# Altium footprint library con-amp-mt.PCBLIB: 51 footprints (part 1 of 4)
Each footprint in its own frame and in the unit in brackets; x right, y up, seen from the top. Pads: shape width x height; smd on the part's side, far side on the other; paste and mask are expansions set on the pad; w line width, h text height; cw(c..) or ccw(c..) is an arc to the next point about the centre after c.
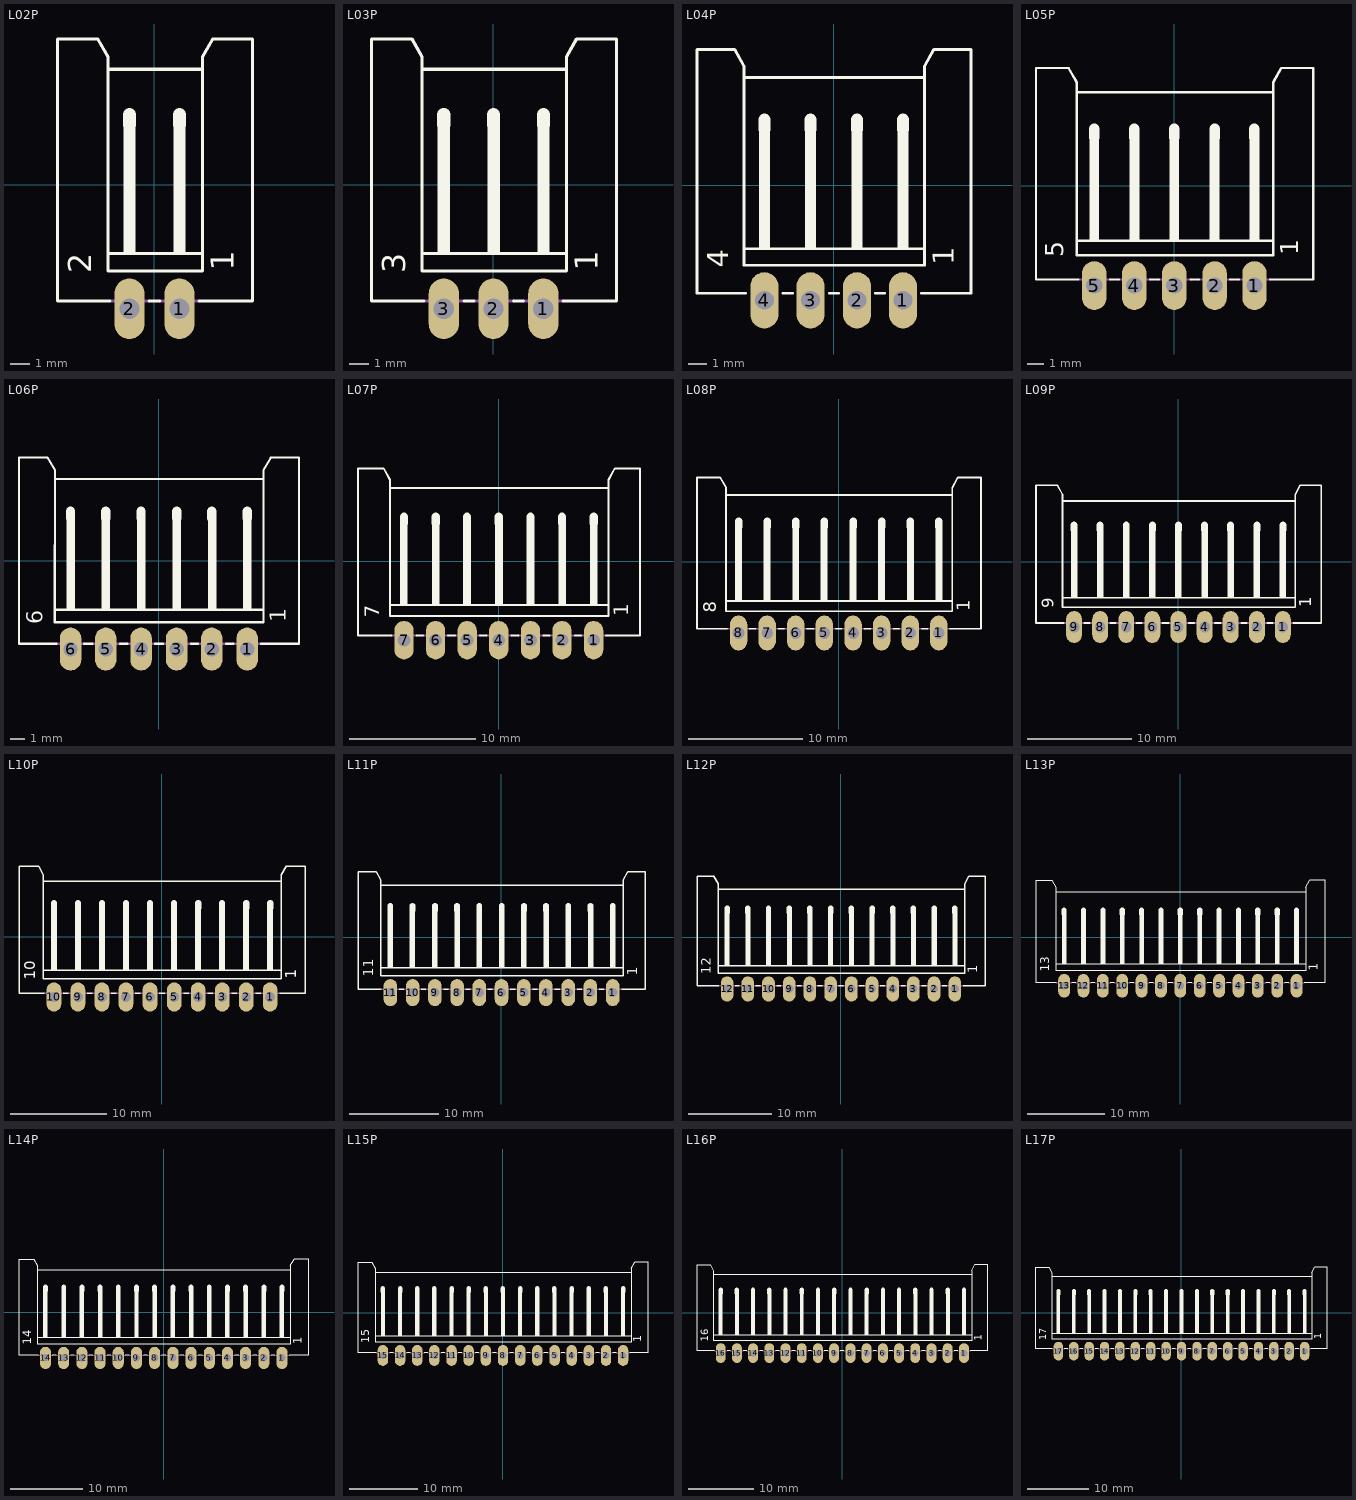
[diagram p0: the footprints below, top view; thin cyan lines are the x and y axes]

## L02P [mil]
pads (2):
  oval 60x120 hole 40: 1(50,-246.06) 2(-49.21,-246.06)
Top Overlay:
  rectangle: -60.79,-136.06 -36.79,124
  rectangle: 38,-136.06 62,124
  lines w6: -87.8,-231.06 -191.77,-231.06 -191.77,289 -111.77,289 -91.77,254 -91.77,229 ; -9.8,-231.06 11,-231.06 ; 89,-231.06 195,-231.06 195,289 116,289 96,254 96,229 ; -91.77,-136.06 -91.77,229 ; -91.77,-136.06 -91.77,-171.06 96,-171.06 96,-136.06 ; -91.77,-136.06 96,-136.06 ; -91.77,229 96,229 ; 96,-136.06 96,229
  lines w26: -49.21,119 -49.21,139 ; 50,119 50,139
  text "2" at -109.79,-176.06 h77.5
  text "1" at 173,-171.06 h77.5
Mechanical 16:
  rectangle: -60.79,-256.06 -36.79,-231.06
  rectangle: 38,-256.06 62,-231.06
  lines w6: -87.8,-231.06 -9.8,-231.06 ; 11,-231.06 89,-231.06

## L03P [mil]
pads (3):
  oval 60x120 hole 40: 1(99,-246.06) 2(0,-246.06) 3(-98.43,-246.06)
Top Overlay:
  rectangle: 87,-136.06 111,124
  rectangle: -11.57,-136.06 13,124
  rectangle: -110.57,-136.06 -86.57,124
  lines w6: -137.56,-231.06 -241.57,-231.06 -241.57,289 -161.57,289 -141.57,254 -141.57,229 ; -58.58,-231.06 -38.58,-231.06 ; 40,-231.06 60,-231.06 ; 138,-231.06 244,-231.06 244,289 165,289 145,254 145,229 ; -141.57,-136.06 145,-136.06 ; -141.57,-136.06 -141.57,-171.06 145,-171.06 145,-136.06 ; -141.57,-136.06 -141.57,229 ; -141.57,229 145,229 ; 145,-136.06 145,229
  lines w26: -98.58,119 -98.58,139 ; 0,119 0,139 ; 99,119 99,139
  text "1" at 222,-171.06 h77.5
  text "3" at -159.57,-176.06 h77.5
Mechanical 16:
  rectangle: 87,-256.06 111,-231.06
  rectangle: -11.57,-256.06 13,-231.06
  rectangle: -110.57,-256.06 -86.57,-231.06
  lines w6: -136.57,-231.06 -58.58,-231.06 ; -38.58,-231.06 40,-231.06 ; 60,-231.06 138,-231.06

## L04P [mil]
pads (4):
  oval 60x120 hole 40: 1(148,-246.06) 2(50,-246.06) 3(-49.21,-246.06) 4(-147.64,-246.06)
Top Overlay:
  rectangle: -159.36,-136.06 -135.36,124
  rectangle: -61.36,-136.06 -37.36,124
  rectangle: 38,-136.06 62,124
  rectangle: 136,-136.06 160,124
  lines w6: -187.36,-231.06 -291.38,-231.06 -291.38,289 -211.38,289 -191.38,254 -191.38,229 ; -108.35,-231.06 -87.36,-231.06 ; -9.37,-231.06 11,-231.06 ; 89,-231.06 109,-231.06 ; 187,-231.06 293,-231.06 293,289 214,289 194,254 194,229 ; -191.38,-136.06 -191.38,229 ; -191.38,-136.06 -191.38,-171.06 194,-171.06 194,-136.06 ; -191.38,-136.06 194,-136.06 ; -191.38,229 194,229 ; 194,-136.06 194,229
  lines w26: -147.64,119 -147.64,139 ; -49.37,119 -49.37,139 ; 50,119 50,139 ; 148,119 148,139
  text "4" at -209.36,-176.06 h77.5
  text "1" at 271,-171.06 h77.5
Mechanical 16:
  rectangle: -159.36,-256.06 -135.36,-231.06
  rectangle: -61.36,-256.06 -37.36,-231.06
  rectangle: 38,-256.06 62,-231.06
  rectangle: 136,-256.06 160,-231.06

## L05P [mil]
pads (5):
  oval 60x120 hole 40: 1(197,-246.06) 2(99,-246.06) 3(0,-246.06) 4(-98.43,-246.06) 5(-196.85,-246.06)
Top Overlay:
  rectangle: 185,-136.06 209,124
  rectangle: 87,-136.06 111,124
  rectangle: -12.15,-136.06 12,124
  rectangle: -110.15,-136.06 -86.15,124
  rectangle: -209.15,-136.06 -185.15,124
  lines w6: -236.14,-231.06 -340.16,-231.06 -340.16,289 -260.16,289 -240.16,254 -240.16,229 ; -157.17,-231.06 -137.17,-231.06 ; -59.13,-231.06 -38.15,-231.06 ; 40,-231.06 60,-231.06 ; 138,-231.06 158,-231.06 ; 236,-231.06 342,-231.06 342,289 263,289 243,254 243,229 ; -240.16,-136.06 243,-136.06 ; -240.16,-136.06 -240.16,-171.06 243,-171.06 243,-136.06 ; -240.16,-136.06 -240.16,229 ; -240.16,229 243,229 ; 243,-136.06 243,229
  lines w26: -197.17,119 -197.17,139 ; -98.43,119 -98.43,139 ; -0.16,119 -0.16,139 ; 99,119 99,139 ; 197,119 197,139
  text "1" at 320,-171.06 h77.5
  text "5" at -258.15,-176.06 h77.5
Mechanical 16:
  rectangle: 185,-256.06 209,-231.06
  rectangle: 87,-256.06 111,-231.06
  rectangle: -12.15,-256.06 12,-231.06
  rectangle: -110.15,-256.06 -86.15,-231.06
  rectangle: -209.15,-256.06 -185.15,-231.06
  lines w6: -234.13,-231.06 -157.17,-231.06 ; -137.17,-231.06 -59.13,-231.06 ; -38.15,-231.06 40,-231.06 ; 60,-231.06 138,-231.06 ; 158,-231.06 236,-231.06

## L06P [mil]
pads (6):
  oval 60x120 hole 40: 1(247,-246.06) 2(148,-246.06) 3(50,-246.06) 4(-49.21,-246.06) 5(-147.64,-246.06) 6(-246.06,-246.06)
Top Overlay:
  rectangle: 235,-136.06 259,124
  rectangle: 137,-136.06 161,124
  rectangle: 38,-136.06 62,124
  rectangle: -60.94,-136.06 -36.94,124
  rectangle: -159.94,-136.06 -135.94,124
  rectangle: -257.94,-136.06 -233.94,124
  lines w6: -285.94,-231.06 -389.94,-231.06 -389.94,289 -309.94,289 -289.92,254 -289.92,229 ; -207.95,-231.06 -184.92,-231.06 ; -107.95,-231.06 -87.95,-231.06 ; -9.92,-231.06 12,-231.06 ; 90,-231.06 110,-231.06 ; 188,-231.06 208,-231.06 ; 286,-231.06 392,-231.06 392,289 313,289 293,254 293,229 ; -289.94,-136.06 293,-136.06 ; -289.94,-136.06 -289.94,-171.06 293,-171.06 293,-136.06 ; -289.94,-136.06 -289.92,229 ; -289.92,229 293,229 ; 293,-136.06 293,229
  lines w26: -245.94,119 -245.94,139 ; -147.95,119 -147.94,139 ; -49.21,119 -49.21,139 ; 50,119 50,139 ; 148,119 148,139 ; 247,119 247,139
  text "1" at 370,-171.06 h77.5
  text "6" at -307.94,-176.06 h77.5
Mechanical 16:
  rectangle: 235,-256.06 259,-231.06
  rectangle: 137,-256.06 161,-231.06
  rectangle: 38,-256.06 62,-231.06
  rectangle: -60.94,-256.06 -36.94,-231.06
  rectangle: -159.94,-256.06 -135.94,-231.06
  rectangle: -257.94,-256.06 -233.94,-231.06
  lines w6: -285.94,-231.06 -207.95,-231.06 ; -184.92,-231.06 -107.95,-231.06 ; -87.95,-231.06 -9.92,-231.06 ; 12,-231.06 90,-231.06 ; 110,-231.06 188,-231.06 ; 208,-231.06 286,-231.06

## L07P [mil]
pads (7):
  oval 60x120 hole 40: 1(296,-246.06) 2(197,-246.06) 3(99,-246.06) 4(0,-246.06) 5(-98.43,-246.06) 6(-196.85,-246.06) 7(-295.28,-246.06)
Top Overlay:
  rectangle: 284,-136.06 308,124
  rectangle: 186,-136.06 210,124
  rectangle: 87,-136.06 111,124
  rectangle: -11.72,-136.06 13,124
  rectangle: -110.72,-136.06 -86.72,124
  rectangle: -208.72,-136.06 -184.72,124
  rectangle: -307.72,-136.06 -283.72,124
  lines w6: -334.72,-231.06 -438.74,-231.06 -438.74,289 -358.74,289 -338.74,254 -338.74,229 ; -256.73,-231.06 -236.73,-231.06 ; -158.74,-231.06 -135.71,-231.06 ; -58.74,-231.06 -38.74,-231.06 ; 40,-231.06 61,-231.06 ; 139,-231.06 159,-231.06 ; 237,-231.06 257,-231.06 ; 335,-231.06 441,-231.06 441,289 362,289 342,254 342,229 ; -338.74,-136.06 342,-136.06 ; -338.74,-136.06 -338.74,-171.06 342,-171.06 342,-136.06 ; -338.74,-136.06 -338.74,229 ; -338.74,229 342,229 ; 342,-136.06 342,229
  lines w26: -295.28,119 -295.28,139 ; -196.73,119 -196.73,139 ; -98.74,119 -98.74,139 ; 0,119 0,139 ; 99,119 99,139 ; 197,119 197,139 ; 296,119 296,139
  text "1" at 419,-171.06 h77.5
  text "7" at -356.72,-176.06 h77.5
Mechanical 16:
  rectangle: 284,-256.06 308,-231.06
  rectangle: 186,-256.06 210,-231.06
  rectangle: 87,-256.06 111,-231.06
  rectangle: -11.72,-256.06 13,-231.06
  rectangle: -110.72,-256.06 -86.72,-231.06
  rectangle: -208.72,-256.06 -184.72,-231.06
  rectangle: -307.72,-256.06 -283.72,-231.06
  lines w6: -334.72,-231.06 -256.73,-231.06 ; -236.73,-231.06 -158.74,-231.06 ; -135.71,-231.06 -58.74,-231.06 ; -38.74,-231.06 40,-231.06 ; 61,-231.06 139,-231.06 ; 159,-231.06 237,-231.06 ; 257,-231.06 335,-231.06

## L08P [mil]
pads (8):
  oval 60x120 hole 40: 1(345,-246.06) 2(247,-246.06) 3(148,-246.06) 4(50,-246.06) 5(-49.21,-246.06) 6(-147.64,-246.06) 7(-246.06,-246.06) 8(-344.49,-246.06)
Top Overlay:
  rectangle: 333,-136.06 357,124
  rectangle: 235,-136.06 259,124
  rectangle: 136,-136.06 160,124
  rectangle: 38,-136.06 62,124
  rectangle: -61.51,-136.06 -37.51,124
  rectangle: -159.51,-136.06 -135.51,124
  rectangle: -258.51,-136.06 -234.51,124
  rectangle: -356.51,-136.06 -332.51,124
  lines w6: -383.5,-231.06 -487.52,-231.06 -487.52,289 -407.52,289 -387.52,254 -387.52,229 ; -306.5,-231.06 -285.51,-231.06 ; -207.52,-231.06 -187.52,-231.06 ; -109.53,-231.06 -86.5,-231.06 ; -9.53,-231.06 11,-231.06 ; 89,-231.06 110,-231.06 ; 188,-231.06 208,-231.06 ; 286,-231.06 306,-231.06 ; 384,-231.06 490,-231.06 490,289 411,289 391,254 391,229 ; -387.52,-136.06 391,-136.06 ; -387.52,-136.06 -387.52,-171.06 391,-171.06 391,-136.06 ; -387.52,-136.06 -387.52,229 ; -387.52,229 391,229 ; 391,-136.06 391,229
  lines w26: -344.53,119 -344.53,139 ; -246.06,119 -246.06,139 ; -147.52,119 -147.52,139 ; -49.53,119 -49.53,139 ; 50,119 50,139 ; 148,119 148,139 ; 247,119 247,139 ; 345,119 345,139
  text "1" at 468,-171.06 h77.5
  text "8" at -405.51,-176.06 h77.5
Mechanical 16:
  rectangle: 333,-256.06 357,-231.06
  rectangle: 235,-256.06 259,-231.06
  rectangle: 136,-256.06 160,-231.06
  rectangle: 38,-256.06 62,-231.06
  rectangle: -61.51,-256.06 -37.51,-231.06
  rectangle: -159.51,-256.06 -135.51,-231.06
  rectangle: -258.51,-256.06 -234.51,-231.06
  rectangle: -356.51,-256.06 -332.51,-231.06
  lines w6: -384.53,-231.06 -306.5,-231.06 ; -285.51,-231.06 -207.52,-231.06 ; -187.52,-231.06 -109.53,-231.06 ; -86.5,-231.06 -9.53,-231.06 ; 11,-231.06 89,-231.06 ; 110,-231.06 188,-231.06 ; 208,-231.06 286,-231.06 ; 306,-231.06 384,-231.06

## L09P [mil]
pads (9):
  oval 60x120 hole 40: 1(394,-246.06) 2(296,-246.06) 3(197,-246.06) 4(99,-246.06) 5(0,-246.06) 6(-98.43,-246.06) 7(-196.85,-246.06) 8(-295.28,-246.06) 9(-393.7,-246.06)
Top Overlay:
  rectangle: 382,-136.06 406,124
  rectangle: 284,-136.06 308,124
  rectangle: 185,-136.06 209,124
  rectangle: 87,-136.06 111,124
  rectangle: -12.3,-136.06 12,124
  rectangle: -110.3,-136.06 -86.3,124
  rectangle: -209.3,-136.06 -185.3,124
  rectangle: -307.3,-136.06 -283.3,124
  rectangle: -405.3,-136.06 -381.3,124
  lines w6: -433.31,-231.06 -537.28,-231.06 -537.28,289 -457.28,289 -437.28,254 -437.28,229 ; -355.31,-231.06 -335.31,-231.06 ; -257.28,-231.06 -236.3,-231.06 ; -158.31,-231.06 -138.31,-231.06 ; -60.31,-231.06 -37.28,-231.06 ; 40,-231.06 60,-231.06 ; 138,-231.06 159,-231.06 ; 237,-231.06 257,-231.06 ; 335,-231.06 355,-231.06 ; 433,-231.06 539,-231.06 539,289 460,289 440,254 440,229 ; -437.28,-136.06 440,-136.06 ; -437.28,-136.06 -437.28,-171.06 440,-171.06 440,-136.06 ; -437.28,-136.06 -437.28,229 ; -437.28,229 440,229 ; 440,-136.06 440,229
  lines w26: -393.31,119 -393.31,139 ; -295.31,119 -295.31,139 ; -196.85,119 -196.85,139 ; -98.31,119 -98.31,139 ; -0.32,119 -0.32,139 ; 99,119 99,139 ; 197,119 197,139 ; 296,119 296,139 ; 394,119 394,139
  text "1" at 517,-171.06 h77.5
  text "9" at -455.3,-176.06 h77.5
Mechanical 16:
  rectangle: 382,-256.06 406,-231.06
  rectangle: 284,-256.06 308,-231.06
  rectangle: 185,-256.06 209,-231.06
  rectangle: 87,-256.06 111,-231.06
  rectangle: -12.3,-256.06 12,-231.06
  rectangle: -110.3,-256.06 -86.3,-231.06
  rectangle: -209.3,-256.06 -185.3,-231.06
  rectangle: -307.3,-256.06 -283.3,-231.06
  rectangle: -405.3,-256.06 -381.3,-231.06
  lines w6: -433.31,-231.06 -355.31,-231.06 ; -335.31,-231.06 -257.28,-231.06 ; -236.3,-231.06 -158.31,-231.06 ; -138.31,-231.06 -60.31,-231.06 ; -37.28,-231.06 40,-231.06 ; 60,-231.06 138,-231.06 ; 159,-231.06 237,-231.06 ; 257,-231.06 335,-231.06 ; 355,-231.06 433,-231.06

## L10P [mil]
pads (10):
  oval 60x120 hole 40: 1(443,-246.06) 2(345,-246.06) 3(247,-246.06) 4(148,-246.06) 5(50,-246.06) 6(-49.21,-246.06) 7(-147.64,-246.06) 8(-246.06,-246.06) 9(-344.49,-246.06) 10(-442.91,-246.06)
Top Overlay:
  rectangle: 431,-136.06 455,124
  rectangle: 333,-136.06 357,124
  rectangle: 234,-136.06 258,124
  rectangle: 136,-136.06 160,124
  rectangle: 37,-136.06 61,124
  rectangle: -61.09,-136.06 -37.09,124
  rectangle: -160.09,-136.06 -136.09,124
  rectangle: -258.09,-136.06 -234.09,124
  rectangle: -356.09,-136.06 -332.09,124
  rectangle: -455.09,-136.06 -431.09,124
  lines w6: -482.09,-231.06 -586.1,-231.06 -586.1,289 -506.1,289 -486.1,254 -486.1,229 ; -404.09,-231.06 -384.09,-231.06 ; -306.1,-231.06 -286.1,-231.06 ; -208.07,-231.06 -187.09,-231.06 ; -109.09,-231.06 -89.09,-231.06 ; -11.1,-231.06 12,-231.06 ; 89,-231.06 109,-231.06 ; 187,-231.06 208,-231.06 ; 286,-231.06 306,-231.06 ; 384,-231.06 404,-231.06 ; 482,-231.06 588,-231.06 588,289 509,289 489,254 489,229 ; -486.1,-136.06 489,-136.06 ; -486.1,-136.06 -486.1,-171.06 489,-171.06 489,-136.06 ; -486.1,-136.06 -486.1,229 ; -486.1,229 489,229 ; 489,-136.06 489,229
  lines w26: -442.91,119 -442.91,139 ; -344.09,119 -344.09,139 ; -246.1,119 -246.1,139 ; -147.64,119 -147.64,139 ; -49.09,119 -49.09,139 ; 49,119 49,139 ; 148,119 148,139 ; 246,119 246,139 ; 345,119 345,139 ; 443,119 443,139
  text "1" at 566,-171.06 h77.5
  text "10" at -504.09,-176.06 h77.5
Mechanical 16:
  rectangle: 431,-256.06 455,-231.06
  rectangle: 333,-256.06 357,-231.06
  rectangle: 234,-256.06 258,-231.06
  rectangle: 136,-256.06 160,-231.06
  rectangle: 37,-256.06 61,-231.06
  rectangle: -61.09,-256.06 -37.09,-231.06
  rectangle: -160.09,-256.06 -136.09,-231.06
  rectangle: -258.09,-256.06 -234.09,-231.06
  rectangle: -356.09,-256.06 -332.09,-231.06
  rectangle: -455.09,-256.06 -431.09,-231.06
  lines w6: -482.09,-231.06 -404.09,-231.06 ; -384.09,-231.06 -306.1,-231.06 ; -286.1,-231.06 -208.07,-231.06 ; -187.09,-231.06 -109.09,-231.06 ; -89.09,-231.06 -11.1,-231.06 ; 12,-231.06 89,-231.06 ; 109,-231.06 187,-231.06 ; 208,-231.06 286,-231.06 ; 306,-231.06 384,-231.06 ; 404,-231.06 482,-231.06

## L11P [mil]
pads (11):
  oval 60x120 hole 40: 1(493,-246.06) 2(394,-246.06) 3(296,-246.06) 4(197,-246.06) 5(99,-246.06) 6(0,-246.06) 7(-98.43,-246.06) 8(-196.85,-246.06) 9(-295.28,-246.06) 10(-393.7,-246.06) 11(-492.13,-246.06)
Top Overlay:
  rectangle: 481,-136.06 505,124
  rectangle: 383,-136.06 407,124
  rectangle: 284,-136.06 308,124
  rectangle: 186,-136.06 210,124
  rectangle: 87,-136.06 111,124
  rectangle: -11.87,-136.06 13,124
  rectangle: -110.87,-136.06 -86.87,124
  rectangle: -208.87,-136.06 -184.87,124
  rectangle: -306.87,-136.06 -282.87,124
  rectangle: -406.87,-136.06 -382.87,124
  rectangle: -504.87,-136.06 -480.87,124
  lines w6: -531.89,-231.06 -635.87,-231.06 -635.87,289 -555.87,289 -535.87,254 -535.87,229 ; -452.87,-231.06 -432.87,-231.06 ; -354.88,-231.06 -334.88,-231.06 ; -256.89,-231.06 -236.89,-231.06 ; -158.86,-231.06 -137.87,-231.06 ; -59.88,-231.06 -39.88,-231.06 ; 39,-231.06 62,-231.06 ; 139,-231.06 159,-231.06 ; 237,-231.06 258,-231.06 ; 336,-231.06 356,-231.06 ; 434,-231.06 454,-231.06 ; 532,-231.06 638,-231.06 638,289 559,289 539,254 539,229 ; -535.87,-136.06 539,-136.06 ; -535.87,-136.06 -535.87,-171.06 539,-171.06 539,-136.06 ; -535.87,-136.06 -535.87,229 ; -535.87,229 539,229 ; 539,-136.06 539,229
  lines w26: -492.87,119 -492.87,139 ; -394.88,119 -394.88,139 ; -294.88,119 -294.88,139 ; -196.89,119 -196.89,139 ; -98.43,119 -98.43,139 ; 1,119 1,139 ; 99,119 99,139 ; 197,119 197,139 ; 296,119 296,139 ; 394,119 394,139 ; 493,119 493,139
  text "1" at 616,-171.06 h77.5
  text "11" at -553.87,-176.06 h77.5
Mechanical 16:
  rectangle: 481,-256.06 505,-231.06
  rectangle: 383,-256.06 407,-231.06
  rectangle: 284,-256.06 308,-231.06
  rectangle: 186,-256.06 210,-231.06
  rectangle: 87,-256.06 111,-231.06
  rectangle: -11.87,-256.06 13,-231.06
  rectangle: -110.87,-256.06 -86.87,-231.06
  rectangle: -208.87,-256.06 -184.87,-231.06
  rectangle: -306.87,-256.06 -282.87,-231.06
  rectangle: -405.87,-256.06 -381.87,-231.06
  rectangle: -503.87,-256.06 -479.87,-231.06
  lines w6: -530.87,-231.06 -452.87,-231.06 ; -432.87,-231.06 -354.88,-231.06 ; -334.88,-231.06 -256.89,-231.06 ; -236.89,-231.06 -158.86,-231.06 ; -137.87,-231.06 -59.88,-231.06 ; -39.88,-231.06 39,-231.06 ; 62,-231.06 139,-231.06 ; 159,-231.06 237,-231.06 ; 258,-231.06 336,-231.06 ; 356,-231.06 434,-231.06 ; 454,-231.06 532,-231.06

## L12P [mil]
pads (12):
  oval 60x120 hole 40: 1(542,-246.06) 2(443,-246.06) 3(345,-246.06) 4(247,-246.06) 5(148,-246.06) 6(50,-246.06) 7(-49.21,-246.06) 8(-147.64,-246.06) 9(-246.06,-246.06) 10(-344.49,-246.06) 11(-442.91,-246.06) 12(-541.34,-246.06)
Top Overlay:
  rectangle: 530,-136.06 554,124
  rectangle: 432,-136.06 456,124
  rectangle: 333,-136.06 357,124
  rectangle: 235,-136.06 259,124
  rectangle: 136,-136.06 160,124
  rectangle: 38,-136.06 62,124
  rectangle: -61.66,-136.06 -37.66,124
  rectangle: -159.66,-136.06 -135.66,124
  rectangle: -257.66,-136.06 -233.66,124
  rectangle: -356.66,-136.06 -332.66,124
  rectangle: -454.66,-136.06 -430.66,124
  rectangle: -553.66,-136.06 -529.66,124
  lines w6: -580.67,-231.06 -684.65,-231.06 -684.65,289 -604.65,289 -584.65,254 -584.65,229 ; -502.68,-231.06 -482.68,-231.06 ; -404.65,-231.06 -384.65,-231.06 ; -305.67,-231.06 -285.67,-231.06 ; -207.68,-231.06 -187.68,-231.06 ; -109.65,-231.06 -88.66,-231.06 ; -10.67,-231.06 10,-231.06 ; 88,-231.06 111,-231.06 ; 188,-231.06 208,-231.06 ; 286,-231.06 307,-231.06 ; 385,-231.06 405,-231.06 ; 483,-231.06 503,-231.06 ; 581,-231.06 687,-231.06 687,289 608,289 588,254 588,229 ; -584.65,-136.06 588,-136.06 ; -584.65,-136.06 -584.65,-171.06 588,-171.06 588,-136.06 ; -584.65,-136.06 -584.65,229 ; -584.65,229 588,229 ; 588,-136.06 588,229
  lines w26: -541.34,119 -541.34,139 ; -442.91,119 -442.91,139 ; -344.49,119 -344.49,139 ; -245.67,119 -245.67,139 ; -147.68,119 -147.68,139 ; -49.21,119 -49.21,139 ; 50,119 50,139 ; 148,119 148,139 ; 247,119 247,139 ; 345,119 345,139 ; 443,119 443,139 ; 542,119 542,139
  text "1" at 665,-171.06 h77.5
  text "12" at -602.66,-176.06 h77.5
Mechanical 16:
  rectangle: 530,-256.06 554,-231.06
  rectangle: 432,-256.06 456,-231.06
  rectangle: 333,-256.06 357,-231.06
  rectangle: 235,-256.06 259,-231.06
  rectangle: 136,-256.06 160,-231.06
  rectangle: 38,-256.06 62,-231.06
  rectangle: -61.66,-256.06 -37.66,-231.06
  rectangle: -159.66,-256.06 -135.66,-231.06
  rectangle: -257.66,-256.06 -233.66,-231.06
  rectangle: -356.66,-256.06 -332.66,-231.06
  rectangle: -454.66,-256.06 -430.66,-231.06
  rectangle: -553.66,-256.06 -529.66,-231.06
  lines w6: -580.67,-231.06 -502.68,-231.06 ; -481.65,-231.06 -403.66,-231.06 ; -383.66,-231.06 -305.67,-231.06 ; -285.67,-231.06 -207.68,-231.06 ; -187.68,-231.06 -109.65,-231.06 ; -88.66,-231.06 -10.67,-231.06 ; 10,-231.06 88,-231.06 ; 111,-231.06 188,-231.06 ; 208,-231.06 286,-231.06 ; 307,-231.06 385,-231.06 ; 405,-231.06 483,-231.06 ; 503,-231.06 581,-231.06

## L13P [mil]
pads (13):
  oval 60x120 hole 40: 1(591,-246.06) 2(493,-246.06) 3(394,-246.06) 4(296,-246.06) 5(197,-246.06) 6(99,-246.06) 7(0,-246.06) 8(-98.43,-246.06) 9(-196.85,-246.06) 10(-295.28,-246.06) 11(-393.7,-246.06) 12(-492.13,-246.06) 13(-590.55,-246.06)
Top Overlay:
  rectangle: 579,-136.06 603,124
  rectangle: 481,-136.06 505,124
  rectangle: 382,-136.06 406,124
  rectangle: 284,-136.06 308,124
  rectangle: 185,-136.06 209,124
  rectangle: 87,-136.06 111,124
  rectangle: -12.45,-136.06 12,124
  rectangle: -110.45,-136.06 -86.45,124
  rectangle: -208.45,-136.06 -184.45,124
  rectangle: -307.45,-136.06 -283.45,124
  rectangle: -405.45,-136.06 -381.45,124
  rectangle: -504.45,-136.06 -480.45,124
  rectangle: -602.45,-136.06 -578.45,124
  lines w6: -630.43,-231.06 -733.46,-231.06 -733.46,289 -653.46,289 -633.46,254 -633.46,229 ; -552.44,-231.06 -532.44,-231.06 ; -454.45,-231.06 -434.45,-231.06 ; -355.43,-231.06 -335.43,-231.06 ; -256.46,-231.06 -236.46,-231.06 ; -158.46,-231.06 -138.46,-231.06 ; -60.43,-231.06 -39.45,-231.06 ; 39,-231.06 59,-231.06 ; 137,-231.06 160,-231.06 ; 237,-231.06 257,-231.06 ; 335,-231.06 356,-231.06 ; 434,-231.06 454,-231.06 ; 532,-231.06 552,-231.06 ; 630,-231.06 736,-231.06 736,289 657,289 637,254 637,229 ; -633.46,-136.06 637,-136.06 ; -633.46,-136.06 -633.46,-171.06 637,-171.06 637,-136.06 ; -633.46,-136.06 -633.46,229 ; -633.46,229 637,229 ; 637,-136.06 637,229
  lines w26: -590.55,119 -590.55,139 ; -492.13,119 -492.13,139 ; -393.7,119 -393.7,139 ; -295.28,119 -295.28,139 ; -196.46,119 -196.46,139 ; -98.46,119 -98.46,139 ; 0,119 0,139 ; 99,119 99,139 ; 197,119 197,139 ; 296,119 296,139 ; 394,119 394,139 ; 493,119 493,139 ; 591,119 591,139
  text "1" at 714,-171.06 h77.5
  text "13" at -651.45,-176.06 h77.5
Mechanical 16:
  rectangle: 579,-256.06 603,-231.06
  rectangle: 481,-256.06 505,-231.06
  rectangle: 382,-256.06 406,-231.06
  rectangle: 284,-256.06 308,-231.06
  rectangle: 185,-256.06 209,-231.06
  rectangle: 87,-256.06 111,-231.06
  rectangle: -12.45,-256.06 12,-231.06
  rectangle: -110.45,-256.06 -86.45,-231.06
  rectangle: -208.45,-256.06 -184.45,-231.06
  rectangle: -307.45,-256.06 -283.45,-231.06
  rectangle: -405.45,-256.06 -381.45,-231.06
  rectangle: -504.45,-256.06 -480.45,-231.06
  rectangle: -602.45,-256.06 -578.45,-231.06
  lines w6: -629.45,-231.06 -551.46,-231.06 ; -531.46,-231.06 -453.46,-231.06 ; -432.44,-231.06 -354.45,-231.06 ; -334.45,-231.06 -256.46,-231.06 ; -236.46,-231.06 -158.46,-231.06 ; -138.46,-231.06 -60.43,-231.06 ; -39.45,-231.06 39,-231.06 ; 59,-231.06 137,-231.06 ; 160,-231.06 237,-231.06 ; 257,-231.06 335,-231.06 ; 356,-231.06 434,-231.06 ; 454,-231.06 532,-231.06 ; 552,-231.06 630,-231.06

## L14P [mil]
pads (14):
  oval 60x120 hole 40: 1(640,-246.06) 2(542,-246.06) 3(443,-246.06) 4(345,-246.06) 5(247,-246.06) 6(148,-246.06) 7(50,-246.06) 8(-49.21,-246.06) 9(-147.64,-246.06) 10(-246.06,-246.06) 11(-344.49,-246.06) 12(-442.91,-246.06) 13(-541.34,-246.06) 14(-639.76,-246.06)
Top Overlay:
  rectangle: 628,-136.06 652,124
  rectangle: 530,-136.06 554,124
  rectangle: 431,-136.06 455,124
  rectangle: 333,-136.06 357,124
  rectangle: 234,-136.06 258,124
  rectangle: 136,-136.06 160,124
  rectangle: 37,-136.06 61,124
  rectangle: -61.24,-136.06 -37.24,124
  rectangle: -159.24,-136.06 -135.24,124
  rectangle: -258.24,-136.06 -234.24,124
  rectangle: -356.24,-136.06 -332.24,124
  rectangle: -455.24,-136.06 -431.24,124
  rectangle: -553.24,-136.06 -529.24,124
  rectangle: -652.24,-136.06 -628.24,124
  lines w6: -679.25,-231.06 -783.23,-231.06 -783.23,289 -703.23,289 -683.23,254 -683.23,229 ; -602.24,-231.06 -582.24,-231.06 ; -503.23,-231.06 -483.23,-231.06 ; -405.24,-231.06 -385.24,-231.06 ; -306.22,-231.06 -286.22,-231.06 ; -207.24,-231.06 -187.24,-231.06 ; -109.25,-231.06 -89.25,-231.06 ; -11.22,-231.06 10,-231.06 ; 88,-231.06 108,-231.06 ; 186,-231.06 209,-231.06 ; 286,-231.06 306,-231.06 ; 384,-231.06 405,-231.06 ; 483,-231.06 503,-231.06 ; 581,-231.06 601,-231.06 ; 679,-231.06 785,-231.06 785,289 706,289 686,254 686,229 ; -683.23,-136.06 686,-136.06 ; -683.23,-136.06 -683.23,-171.06 686,-171.06 686,-136.06 ; -683.23,-136.06 -683.23,229 ; -683.23,229 686,229 ; 686,-136.06 686,229
  lines w26: -639.76,119 -639.76,139 ; -541.34,119 -541.34,139 ; -442.91,119 -442.91,139 ; -344.49,119 -344.49,139 ; -246.06,119 -246.06,139 ; -147.24,119 -147.24,139 ; -49.25,119 -49.25,139 ; 50,119 50,139 ; 148,119 148,139 ; 246,119 246,139 ; 345,119 345,139 ; 443,119 443,139 ; 542,119 542,139 ; 640,119 640,139
  text "1" at 763,-171.06 h77.5
  text "14" at -701.24,-176.06 h77.5
Mechanical 16:
  rectangle: 628,-256.06 652,-231.06
  rectangle: 530,-256.06 554,-231.06
  rectangle: 431,-256.06 455,-231.06
  rectangle: 333,-256.06 357,-231.06
  rectangle: 234,-256.06 258,-231.06
  rectangle: 136,-256.06 160,-231.06
  rectangle: 37,-256.06 61,-231.06
  rectangle: -61.24,-256.06 -37.24,-231.06
  rectangle: -159.24,-256.06 -135.24,-231.06
  rectangle: -258.24,-256.06 -234.24,-231.06
  rectangle: -356.24,-256.06 -332.24,-231.06
  rectangle: -455.24,-256.06 -431.24,-231.06
  rectangle: -553.24,-256.06 -529.24,-231.06
  rectangle: -652.24,-256.06 -628.24,-231.06
  lines w6: -679.25,-231.06 -601.22,-231.06 ; -580.24,-231.06 -502.24,-231.06 ; -482.24,-231.06 -404.25,-231.06 ; -383.23,-231.06 -305.24,-231.06 ; -285.24,-231.06 -207.24,-231.06 ; -187.24,-231.06 -109.25,-231.06 ; -89.25,-231.06 -11.22,-231.06 ; 10,-231.06 88,-231.06 ; 108,-231.06 186,-231.06 ; 209,-231.06 286,-231.06 ; 306,-231.06 384,-231.06 ; 405,-231.06 483,-231.06 ; 503,-231.06 581,-231.06 ; 601,-231.06 679,-231.06

## L15P [mil]
pads (15):
  oval 60x120 hole 40: 1(689,-246.06) 2(591,-246.06) 3(493,-246.06) 4(394,-246.06) 5(296,-246.06) 6(197,-246.06) 7(99,-246.06) 8(0,-246.06) 9(-98.43,-246.06) 10(-196.85,-246.06) 11(-295.28,-246.06) 12(-393.7,-246.06) 13(-492.13,-246.06) 14(-590.55,-246.06) 15(-688.98,-246.06)
Top Overlay:
  rectangle: 677,-136.06 701,124
  rectangle: 579,-136.06 603,124
  rectangle: 480,-136.06 504,124
  rectangle: 382,-136.06 406,124
  rectangle: 283,-136.06 307,124
  rectangle: 185,-136.06 209,124
  rectangle: 86,-136.06 110,124
  rectangle: -12.02,-136.06 12,124
  rectangle: -110.02,-136.06 -86.02,124
  rectangle: -209.02,-136.06 -185.02,124
  rectangle: -307.02,-136.06 -283.02,124
  rectangle: -406.02,-136.06 -382.02,124
  rectangle: -504.02,-136.06 -480.02,124
  rectangle: -603.02,-136.06 -579.02,124
  rectangle: -701.02,-136.06 -677.02,124
  lines w6: -728.03,-231.06 -832.01,-231.06 -832.01,289 -752.01,289 -732.01,254 -732.01,229 ; -650.04,-231.06 -630.04,-231.06 ; -552.01,-231.06 -532.01,-231.06 ; -453.03,-231.06 -433.03,-231.06 ; -355.04,-231.06 -335.04,-231.06 ; -256.02,-231.06 -236.02,-231.06 ; -158.03,-231.06 -138.03,-231.06 ; -60.04,-231.06 -40.04,-231.06 ; 38,-231.06 59,-231.06 ; 137,-231.06 157,-231.06 ; 235,-231.06 258,-231.06 ; 335,-231.06 355,-231.06 ; 433,-231.06 454,-231.06 ; 532,-231.06 552,-231.06 ; 630,-231.06 650,-231.06 ; 728,-231.06 834,-231.06 834,289 755,289 735,254 735,229 ; -732.01,-136.06 735,-136.06 ; -732.01,-136.06 -732.01,-171.06 735,-171.06 735,-136.06 ; -732.01,-136.06 -732.01,229 ; -732.01,229 735,229 ; 735,-136.06 735,229
  lines w26: -688.98,119 -688.98,139 ; -590.55,119 -590.55,139 ; -492.13,119 -492.13,139 ; -393.7,119 -393.7,139 ; -295.28,119 -295.28,139 ; -196.85,119 -196.85,139 ; -98.03,119 -98.03,139 ; -0.04,119 -0.04,139 ; 99,119 99,139 ; 197,119 197,139 ; 295,119 295,139 ; 394,119 394,139 ; 492,119 492,139 ; 591,119 591,139 ; 689,119 689,139
  text "1" at 812,-171.06 h77.5
  text "15" at -750.02,-176.06 h77.5
Mechanical 16:
  rectangle: 677,-256.06 701,-231.06
  rectangle: 579,-256.06 603,-231.06
  rectangle: 480,-256.06 504,-231.06
  rectangle: 382,-256.06 406,-231.06
  rectangle: 283,-256.06 307,-231.06
  rectangle: 185,-256.06 209,-231.06
  rectangle: 86,-256.06 110,-231.06
  rectangle: -12.02,-256.06 12,-231.06
  rectangle: -110.02,-256.06 -86.02,-231.06
  rectangle: -209.02,-256.06 -185.02,-231.06
  rectangle: -307.02,-256.06 -283.02,-231.06
  rectangle: -406.02,-256.06 -382.02,-231.06
  rectangle: -504.02,-256.06 -480.02,-231.06
  rectangle: -603.02,-256.06 -579.02,-231.06
  rectangle: -701.02,-256.06 -677.02,-231.06
  lines w6: -728.03,-231.06 -650.04,-231.06 ; -630.04,-231.06 -552.01,-231.06 ; -531.02,-231.06 -453.03,-231.06 ; -433.03,-231.06 -355.04,-231.06 ; -334.02,-231.06 -256.02,-231.06 ; -236.02,-231.06 -158.03,-231.06 ; -138.03,-231.06 -60.04,-231.06 ; -40.04,-231.06 38,-231.06 ; 59,-231.06 137,-231.06 ; 157,-231.06 235,-231.06 ; 258,-231.06 335,-231.06 ; 355,-231.06 433,-231.06 ; 454,-231.06 532,-231.06 ; 552,-231.06 630,-231.06 ; 650,-231.06 728,-231.06

## L16P [mil]
pads (16):
  oval 60x120 hole 40: 1(739,-246.06) 2(640,-246.06) 3(542,-246.06) 4(443,-246.06) 5(345,-246.06) 6(247,-246.06) 7(148,-246.06) 8(50,-246.06) 9(-49.21,-246.06) 10(-147.64,-246.06) 11(-246.06,-246.06) 12(-344.49,-246.06) 13(-442.91,-246.06) 14(-541.34,-246.06) 15(-639.76,-246.06) 16(-737.81,-246.06)
Top Overlay:
  rectangle: 727,-136.06 751,124
  rectangle: 629,-136.06 653,124
  rectangle: 530,-136.06 554,124
  rectangle: 432,-136.06 456,124
  rectangle: 333,-136.06 357,124
  rectangle: 235,-136.06 259,124
  rectangle: 136,-136.06 160,124
  rectangle: 38,-136.06 62,124
  rectangle: -60.81,-136.06 -36.81,124
  rectangle: -159.81,-136.06 -135.81,124
  rectangle: -257.81,-136.06 -233.81,124
  rectangle: -356.81,-136.06 -332.81,124
  rectangle: -454.81,-136.06 -430.81,124
  rectangle: -553.81,-136.06 -529.81,124
  rectangle: -651.81,-136.06 -627.81,124
  rectangle: -749.81,-136.06 -725.81,124
  lines w6: -777.8,-231.06 -881.81,-231.06 -881.81,289 -801.81,289 -781.81,254 -781.81,229 ; -698.82,-231.06 -678.82,-231.06 ; -600.83,-231.06 -580.83,-231.06 ; -501.81,-231.06 -481.81,-231.06 ; -403.82,-231.06 -383.82,-231.06 ; -305.83,-231.06 -285.83,-231.06 ; -207.8,-231.06 -187.8,-231.06 ; -108.82,-231.06 -88.82,-231.06 ; -10.83,-231.06 10,-231.06 ; 88,-231.06 109,-231.06 ; 187,-231.06 207,-231.06 ; 285,-231.06 308,-231.06 ; 385,-231.06 405,-231.06 ; 483,-231.06 504,-231.06 ; 582,-231.06 602,-231.06 ; 680,-231.06 700,-231.06 ; 778,-231.06 884,-231.06 884,289 805,289 785,254 785,229 ; -781.81,-136.06 785,-136.06 ; -781.81,-136.06 -781.81,-171.06 785,-171.06 785,-136.06 ; -781.81,-136.06 -781.81,229 ; -781.81,229 785,229 ; 785,-136.06 785,229
  lines w26: -737.8,119 -737.8,139 ; -639.76,119 -639.76,139 ; -541.34,119 -541.34,139 ; -442.91,119 -442.91,139 ; -344.49,119 -344.49,139 ; -246.06,119 -246.06,139 ; -147.64,119 -147.64,139 ; -48.82,119 -48.82,139 ; 50,119 50,139 ; 148,119 148,139 ; 247,119 247,139 ; 345,119 345,139 ; 443,119 443,139 ; 542,119 542,139 ; 640,119 640,139 ; 739,119 739,139
  text "1" at 862,-171.06 h77.5
  text "16" at -799.81,-176.06 h77.5
Mechanical 16:
  rectangle: 727,-256.06 751,-231.06
  rectangle: 629,-256.06 653,-231.06
  rectangle: 530,-256.06 554,-231.06
  rectangle: 432,-256.06 456,-231.06
  rectangle: 333,-256.06 357,-231.06
  rectangle: 235,-256.06 259,-231.06
  rectangle: 136,-256.06 160,-231.06
  rectangle: 38,-256.06 62,-231.06
  rectangle: -60.81,-256.06 -36.81,-231.06
  rectangle: -159.81,-256.06 -135.81,-231.06
  rectangle: -257.81,-256.06 -233.81,-231.06
  rectangle: -356.81,-256.06 -332.81,-231.06
  rectangle: -454.81,-256.06 -430.81,-231.06
  rectangle: -553.81,-256.06 -529.81,-231.06
  rectangle: -651.81,-256.06 -627.81,-231.06
  rectangle: -749.81,-256.06 -725.81,-231.06
  lines w6: -776.81,-231.06 -698.82,-231.06 ; -678.82,-231.06 -600.83,-231.06 ; -580.83,-231.06 -502.8,-231.06 ; -481.81,-231.06 -403.82,-231.06 ; -383.82,-231.06 -305.83,-231.06 ; -284.8,-231.06 -206.81,-231.06 ; -186.81,-231.06 -108.82,-231.06 ; -88.82,-231.06 -10.83,-231.06 ; 10,-231.06 88,-231.06 ; 109,-231.06 187,-231.06 ; 207,-231.06 285,-231.06 ; 308,-231.06 385,-231.06 ; 405,-231.06 483,-231.06 ; 504,-231.06 582,-231.06 ; 602,-231.06 680,-231.06 ; 700,-231.06 778,-231.06

## L17P [mil]
pads (17):
  oval 60x120 hole 40: 1(788,-246.06) 2(689,-246.06) 3(591,-246.06) 4(493,-246.06) 5(394,-246.06) 6(296,-246.06) 7(197,-246.06) 8(99,-246.06) 9(0,-246.06) 10(-98.43,-246.06) 11(-196.85,-246.06) 12(-295.28,-246.06) 13(-393.7,-246.06) 14(-492.13,-246.06) 15(-590.55,-246.06) 16(-688.98,-246.06) 17(-787.4,-246.06)
Top Overlay:
  rectangle: 776,-136.06 800,124
  rectangle: 678,-136.06 702,124
  rectangle: 579,-136.06 603,124
  rectangle: 481,-136.06 505,124
  rectangle: 382,-136.06 406,124
  rectangle: 284,-136.06 308,124
  rectangle: 185,-136.06 209,124
  rectangle: 87,-136.06 111,124
  rectangle: -11.6,-136.06 13,124
  rectangle: -110.6,-136.06 -86.6,124
  rectangle: -208.6,-136.06 -184.6,124
  rectangle: -307.6,-136.06 -283.6,124
  rectangle: -405.6,-136.06 -381.6,124
  rectangle: -504.6,-136.06 -480.6,124
  rectangle: -602.6,-136.06 -578.6,124
  rectangle: -700.6,-136.06 -676.6,124
  rectangle: -799.6,-136.06 -775.6,124
  lines w6: -826.61,-231.06 -930.59,-231.06 -930.59,289 -850.59,289 -830.59,254 -830.59,229 ; -748.58,-231.06 -728.58,-231.06 ; -650.59,-231.06 -630.59,-231.06 ; -552.6,-231.06 -532.6,-231.06 ; -453.58,-231.06 -433.58,-231.06 ; -355.59,-231.06 -335.59,-231.06 ; -257.6,-231.06 -237.6,-231.06 ; -158.58,-231.06 -138.58,-231.06 ; -59.61,-231.06 -39.61,-231.06 ; 39,-231.06 59,-231.06 ; 137,-231.06 158,-231.06 ; 236,-231.06 256,-231.06 ; 334,-231.06 357,-231.06 ; 434,-231.06 454,-231.06 ; 532,-231.06 553,-231.06 ; 631,-231.06 651,-231.06 ; 729,-231.06 749,-231.06 ; 827,-231.06 933,-231.06 933,289 854,289 834,254 834,229 ; -830.59,-136.06 834,-136.06 ; -830.59,-136.06 -830.59,-171.06 834,-171.06 834,-136.06 ; -830.59,-136.06 -830.59,229 ; -830.59,229 834,229 ; 834,-136.06 834,229
  lines w26: -787.6,119 -787.6,139 ; -688.58,119 -688.58,139 ; -590.55,119 -590.55,139 ; -492.13,119 -492.13,139 ; -393.7,119 -393.7,139 ; -295.28,119 -295.28,139 ; -196.85,119 -196.85,139 ; -98.43,119 -98.43,139 ; 1,119 1,139 ; 99,119 99,139 ; 197,119 197,139 ; 296,119 296,139 ; 394,119 394,139 ; 493,119 493,139 ; 591,119 591,139 ; 689,119 689,139 ; 788,119 788,139
  text "1" at 911,-171.06 h77.5
  text "17" at -848.6,-176.06 h77.5
Mechanical 16:
  rectangle: 776,-256.06 800,-231.06
  rectangle: 678,-256.06 702,-231.06
  rectangle: 579,-256.06 603,-231.06
  rectangle: 481,-256.06 505,-231.06
  rectangle: 382,-256.06 406,-231.06
  rectangle: 284,-256.06 308,-231.06
  rectangle: 185,-256.06 209,-231.06
  rectangle: 87,-256.06 111,-231.06
  rectangle: -11.6,-256.06 13,-231.06
  rectangle: -110.6,-256.06 -86.6,-231.06
  rectangle: -208.6,-256.06 -184.6,-231.06
  rectangle: -307.6,-256.06 -283.6,-231.06
  rectangle: -405.6,-256.06 -381.6,-231.06
  rectangle: -504.6,-256.06 -480.6,-231.06
  rectangle: -602.6,-256.06 -578.6,-231.06
  rectangle: -700.6,-256.06 -676.6,-231.06
  rectangle: -799.6,-256.06 -775.6,-231.06
  lines w6: -826.61,-231.06 -748.58,-231.06 ; -727.6,-231.06 -649.61,-231.06 ; -629.61,-231.06 -551.61,-231.06 ; -531.61,-231.06 -453.58,-231.06 ; -432.6,-231.06 -354.61,-231.06 ; -334.61,-231.06 -256.61,-231.06 ; -235.59,-231.06 -157.6,-231.06 ; -137.6,-231.06 -59.61,-231.06 ; -39.61,-231.06 39,-231.06 ; 59,-231.06 137,-231.06 ; 158,-231.06 236,-231.06 ; 256,-231.06 334,-231.06 ; 357,-231.06 434,-231.06 ; 454,-231.06 532,-231.06 ; 553,-231.06 631,-231.06 ; 651,-231.06 729,-231.06 ; 749,-231.06 827,-231.06